# Altium footprint library drac_v31.PcbLib: 45 footprints (part 1 of 3)
Each footprint in its own frame and in the unit in brackets; x right, y up, seen from the top. Pads: shape width x height; smd on the part's side, far side on the other; paste and mask are expansions set on the pad; w line width, h text height; cw(c..) or ccw(c..) is an arc to the next point about the centre after c.
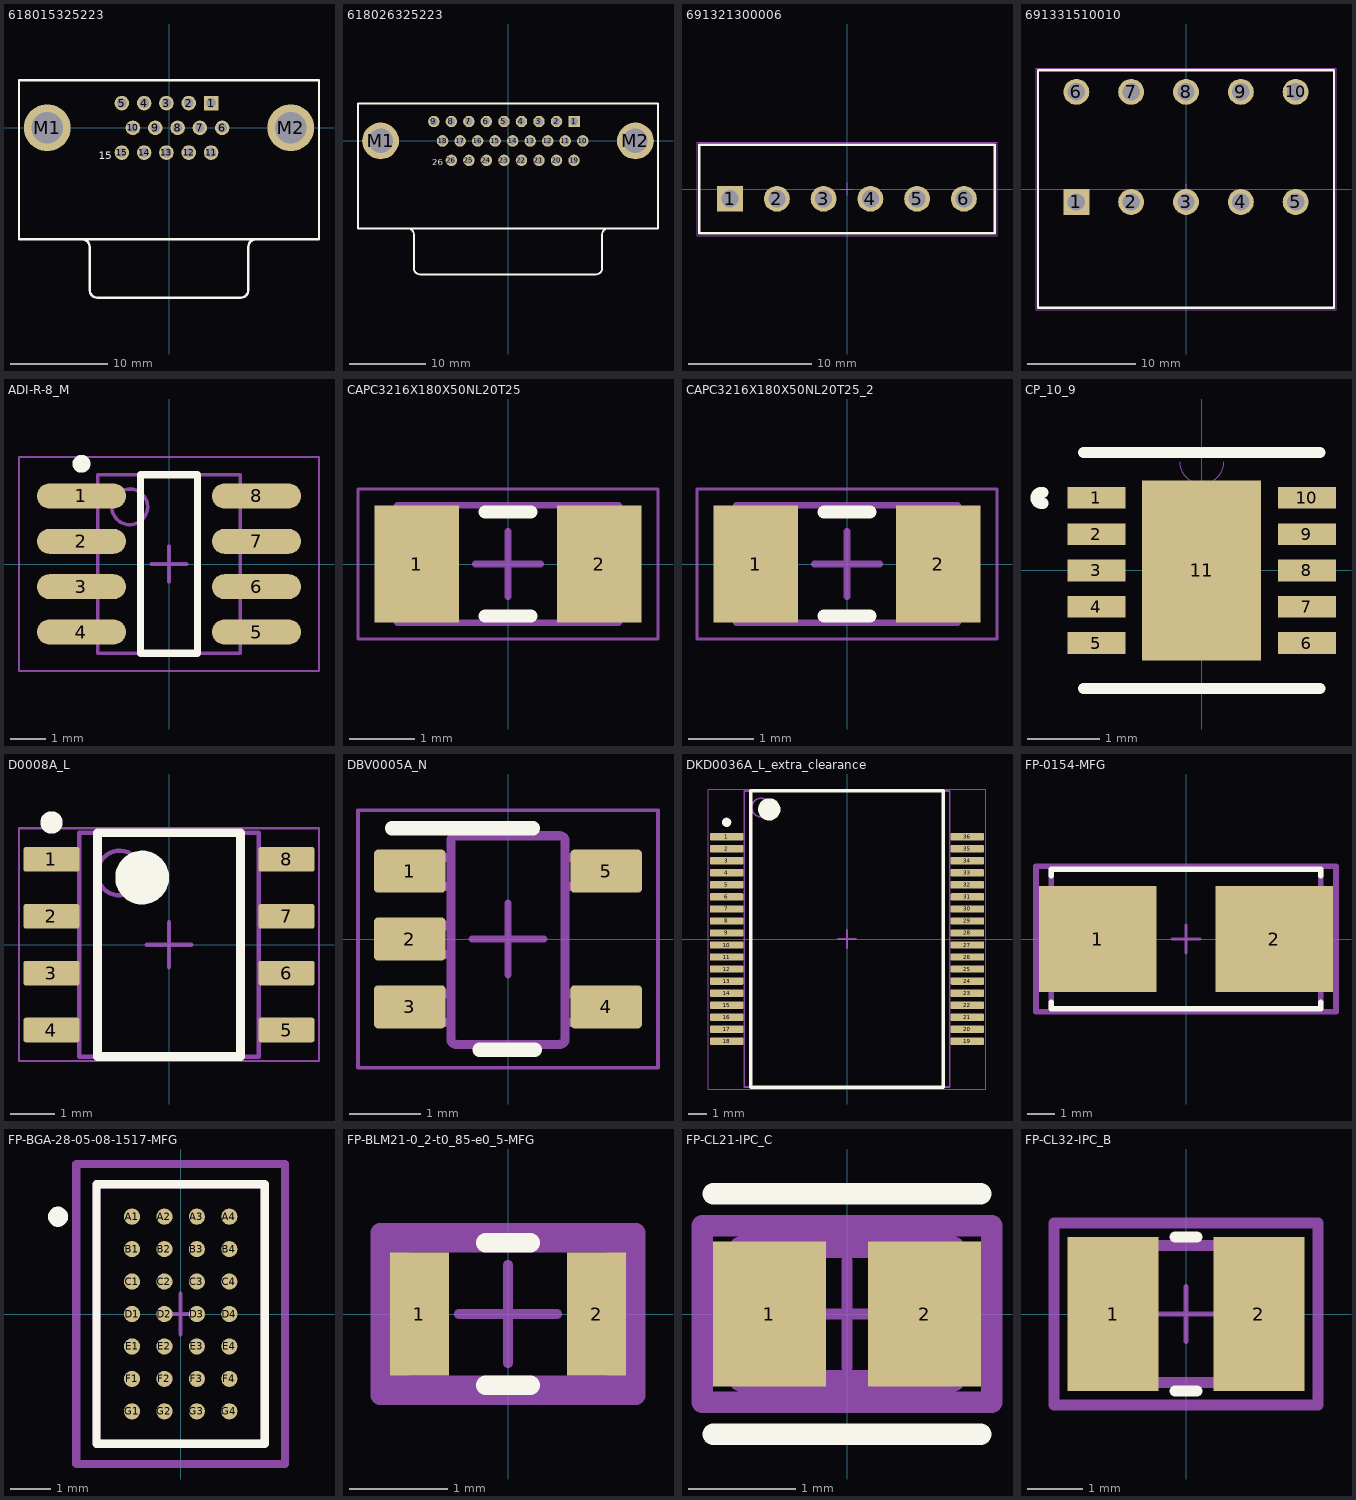
[diagram p0: the footprints below, top view; thin cyan lines are the x and y axes]

## 618015325223 [mm]
pads (17):
  rect 1.5x1.5 hole 1: 1(4.32,2.54)
  round 1.5 hole 1: 2(2.03,2.54) 3(-0.26,2.54) 4(-2.55,2.54) 5(-4.84,2.54) 6(5.46,0) 7(3.17,0) 8(0.88,0) 9(-1.41,0) 10(-3.7,0) 11(4.32,-2.54) 12(2.03,-2.54) 13(-0.26,-2.54) 14(-2.55,-2.54) 15(-4.84,-2.54)
  round 4.8 hole 3.2: M1(-12.5,0) M2(12.5,0)
Top Overlay:
  lines w0.25: -8.95,-11.43 cw(c-8.95,-12.23) -8.15,-12.23 -8.15,-16.63 ccw(c-7.35,-16.63) -7.35,-17.43 7.35,-17.43 ccw(c7.35,-16.63) 8.15,-16.63 8.15,-12.23 cw(c8.95,-12.23) 8.95,-11.43 ; -15.4,-11.43 -15.4,4.87 15.4,4.87 15.4,-11.43 -15.4,-11.43
  text "15" at -7.2,-3.2 h0.8
3D body "618015325223.stp": height 12.75, standoff -3.65, extent -15.4,-17.43 15.4,4.87

## 618026325223 [mm]
pads (28):
  rect 1.5x1.5 hole 1: 1(8.63,2.54)
  round 1.5 hole 1: 2(6.34,2.54) 3(4.05,2.54) 4(1.76,2.54) 5(-0.53,2.54) 6(-2.82,2.54) 7(-5.11,2.54) 8(-7.4,2.54) 9(-9.69,2.54) 10(9.77,0) 11(7.48,0) 12(5.19,0) 13(2.9,0) 14(0.61,0) 15(-1.68,0) 16(-3.97,0) 17(-6.26,0) 18(-8.55,0) 19(8.63,-2.54) 20(6.34,-2.54) 21(4.05,-2.54) 22(1.76,-2.54) 23(-0.53,-2.54) 24(-2.82,-2.54) 25(-5.11,-2.54) 26(-7.4,-2.54)
  round 4.8 hole 3.2: M1(-16.65,0) M2(16.65,0)
Top Overlay:
  lines w0.25: -13.1,-11.43 cw(c-13.1,-12.23) -12.3,-12.23 -12.3,-16.63 ccw(c-11.5,-16.63) -11.5,-17.43 11.5,-17.43 ccw(c11.5,-16.63) 12.3,-16.63 12.3,-12.23 cw(c13.1,-12.23) 13.1,-11.43 ; -19.6,-11.43 -19.6,4.87 19.6,4.87 19.6,-11.43 -19.6,-11.43
  text "26" at -9.89,-3.2 h0.8
3D body "618026325223.stp": height 12.75, standoff -3.65, extent -19.6,-17.43 19.6,4.87

## 691321300006 [mm] "Vertical PCB Header, pitch 3.81mm, 06p"
height 9.2
pads (6):
  rect 2.1x2.1 hole 1.4: 1(-9.525,-0.8)
  round 2.1 hole 1.4: 2(-5.715,-0.8) 3(-1.905,-0.8) 4(1.905,-0.8) 5(5.715,-0.8) 6(9.525,-0.8)
Top Overlay:
  lines w0.2: -12.025,-3.6 12.025,-3.6 12.025,3.6 -12.025,3.6 -12.025,-3.6
Top 3D Body:
  lines w0.1: -12.025,-3.6 -12.025,3.6 12.025,3.6 12.025,-3.6 -12.025,-3.6
Top Courtyard:
  lines w0.05: -0.5,0 0.5,0 ; 0,-0.5 0,0.5 ; -12.225,-3.8 -12.225,3.8 12.225,3.8 12.225,-3.8 -12.225,-3.8
3D body "691321300006.stp": height 9.25, standoff -3.45, extent -12.025,-3.6 12.025,3.6

## 691331510010 [mm] "5,08mm - PCB - Dual row - Horizontal - 10p"
height 28.8
pads (10):
  rect 2.4x2.4 hole 1.6: 1(-10.16,-1.2)
  round 2.4 hole 1.6: 2(-5.08,-1.2) 3(0,-1.2) 4(5.08,-1.2) 5(10.16,-1.2) 6(-10.16,9) 7(-5.08,9) 8(0,9) 9(5.08,9) 10(10.16,9)
Top Overlay:
  lines w0.2: -13.7,-11 13.7,-11 13.7,11 -13.7,11 -13.7,-11
Top 3D Body:
  lines w0.1: -13.7,-11 -13.7,11 13.7,11 13.7,-11 -13.7,-11
Top Courtyard:
  lines w0.05: -0.5,0 0.5,0 ; 0,-0.5 0,0.5 ; -13.9,-11.2 -13.9,11.2 13.9,11.2 13.9,-11.2 -13.9,-11.2
3D body "691331510010.stp": height 28.85, standoff -3.95, extent -13.7,-11 13.7,11

## ADI-R-8_M [mm] "SOIC, 8-Leads, Body 4.9x3.9mm, Pitch 1.27mm, IPC Low Density"
height 1.75
pads (8):
  oval 2.5x0.7 smd: 1(-2.45,1.905) 2(-2.45,0.635) 3(-2.45,-0.635) 4(-2.45,-1.905) 5(2.45,-1.905) 6(2.45,-0.635) 7(2.45,0.635) 8(2.45,1.905)
Top Overlay:
  circle w0.25: c-2.45,2.805 r0.125
  lines w0.2: -0.8,-2.5 0.8,-2.5 0.8,2.5 -0.8,2.5 -0.8,-2.5
Top 3D Body:
  circle w0.1: c-1.1,1.6 r0.5
  lines w0.1: -2,-2.5 2,-2.5 2,2.5 -2,2.5 -2,-2.5
Top Courtyard:
  lines w0.05: -4.2,-3 4.2,-3 4.2,3 -4.2,3 -4.2,-3
  lines w0.1: -0.5,0 0.5,0 ; 0,-0.5 0,0.5
3D body: height 1.75, standoff 0.1, extent -2,-2.5 2,2.5

## CAPC3216X180X50NL20T25 [mm] "Chip Capacitor, 2-Leads, Body 3.20x1.60mm, IPC Medium Density"
height 1.8
pads (2):
  rect 1.3x1.8 smd: 1(-1.4,0) 2(1.4,0)
Top Overlay:
  lines w0.2: -0.35,-0.8 0.35,-0.8 ; -0.35,0.8 0.35,0.8
Top 3D Body:
  lines w0.1: -1.7,-0.9 -1.7,0.9 1.7,0.9 1.7,-0.9 -1.7,-0.9
Top Courtyard:
  lines w0.05: -2.3,-1.15 -2.3,1.15 2.3,1.15 2.3,-1.15 -2.3,-1.15
  lines w0.1: -0.5,0 0.5,0 ; 0,-0.5 0,0.5
3D body: height 1.8, standoff 0, extent 1.2,-0.9 1.7,0.9
3D body: height 1.8, standoff 0, extent -1.7,-0.9 -1.2,0.9
3D body: height 1.8, standoff 0, extent -1.2,-0.9 1.2,0.9

## CAPC3216X180X50NL20T25_2 [mm]
pads (2):
  rect 1.3x1.8 smd: 1(-1.4,0) 2(1.4,0)
Top Overlay:
  lines w0.2: -0.35,-0.8 0.35,-0.8 ; -0.35,0.8 0.35,0.8
Top 3D Body:
  lines w0.1: -1.7,-0.9 -1.7,0.9 1.7,0.9 1.7,-0.9 -1.7,-0.9
Top Courtyard:
  lines w0.05: -2.3,-1.15 -2.3,1.15 2.3,1.15 2.3,-1.15 -2.3,-1.15
  lines w0.1: -0.5,0 0.5,0 ; 0,-0.5 0,0.5
3D body "CAPC3216X18N.step": height 1.8, standoff 0, extent -1.7,-0.9 1.7,0.9

## CP_10_9 [mm]
pads (11):
  rect 0.8x0.3 smd: 1(-1.45,1) 2(-1.45,0.5) 3(-1.45,0) 4(-1.45,-0.5) 5(-1.45,-1) 6(1.45,-1) 7(1.45,-0.5) 8(1.45,0) 9(1.45,0.5) 10(1.45,1)
  rect 1.64x2.48 smd paste-1.227: 11(0,0)
Top Overlay:
  lines w0.152: -2.188,0.926 cw(c-2.206,1) -2.188,1.074 ; -1.627,-1.627 1.627,-1.627 ; -1.627,1.627 1.627,1.627
Top Paste:
  region: 0.82,1.24 -0.82,1.24 -0.82,-1.24 0.82,-1.24
Top 3D Body:
  lines w0: -0.305,1.5 ccw(c0,1.5) 0.305,1.5
3D body "CP_10_9.stp": height 0.75, standoff 0, extent -1.55,-1.5 1.55,1.5

## D0008A_L [mm] "SOIC, 8-Leads, Body 5x4mm, Pitch 1.27mm, IPC High Density"
height 1.75
pads (8):
  rrect18% 1.25x0.55 smd: 1(-2.625,1.905) 2(-2.625,0.635) 3(-2.625,-0.635) 4(-2.625,-1.905) 5(2.625,-1.905) 6(2.625,-0.635) 7(2.625,0.635) 8(2.625,1.905)
Top Overlay:
  circle w0.6: c-0.6,1.5 r0.3
  circle w0.25: c-2.625,2.73 r0.125
  lines w0.2: -1.6,-2.5 1.6,-2.5 1.6,2.5 -1.6,2.5 -1.6,-2.5
Mechanical 1:
  text ".Designator" at -1.397,-0.254 h0.6
Top 3D Body:
  circle w0.1: c-1.1,1.6 r0.5
  lines w0.1: -2,-2.5 2,-2.5 2,2.5 -2,2.5 -2,-2.5
Top Courtyard:
  lines w0.05: -3.35,-2.6 3.35,-2.6 3.35,2.6 -3.35,2.6 -3.35,-2.6
  lines w0.1: -0.5,0 0.5,0 ; 0,-0.5 0,0.5
3D body "SOIC-8akaD0008AakaM08A.stp": height 1.63, standoff 0, extent -3,-2.45 3,2.45

## DBV0005A_N [mm]
pads (5):
  rrect17% 1x0.6 smd: 1(-1.375,0.95) 2(-1.375,0) 3(-1.375,-0.95) 4(1.375,-0.95) 5(1.375,0.95)
Top Overlay:
  lines w0.2: -1.625,1.55 0.35,1.55 ; -0.4,-1.55 0.375,-1.55
Top Assembly:
  lines w0.127: -0.801,1.371 cw(c-0.725,1.37) -0.725,1.446 ; -0.801,1.37 -0.801,-1.399 -0.801,-1.4 ccw(c-0.725,-1.399) -0.725,-1.475 ; -0.801,1.37 -0.801,1.371 ; -0.725,-1.475 0.723,-1.475 0.724,-1.475 ccw(c0.723,-1.399) 0.799,-1.4 0.799,-1.399 0.799,1.37 ; -0.725,-1.475 -0.725,-1.475 ; -0.725,1.446 0.723,1.446 0.724,1.446 cw(c0.723,1.37) 0.799,1.371 ; -0.725,1.446 -0.725,1.446 ; 0.799,1.37 0.799,1.371 ; -1.423,-1.167 -1.199,-1.167 -1.105,-1.167 -1.088,-1.167 -0.835,-1.167 -0.801,-1.167 -0.801,-0.767 -0.835,-0.767 -1.088,-0.767 -1.105,-0.767 -1.199,-0.767 -1.423,-0.767 -1.423,-1.167 ; -1.423,-0.215 -1.423,0.186 -1.199,0.186 -1.105,0.186 -1.088,0.186 -0.835,0.186 -0.801,0.186 -0.801,-0.215 -0.835,-0.215 -1.088,-0.215 -1.105,-0.215 -1.199,-0.215 -1.423,-0.215 ; -1.423,0.738 -1.199,0.738 -1.105,0.738 -1.088,0.738 -0.835,0.738 -0.801,0.738 -0.801,1.138 -0.835,1.138 -1.088,1.138 -1.105,1.138 -1.199,1.138 -1.423,1.138 -1.423,0.738 ; 0.799,-1.167 0.834,-1.167 1.087,-1.167 1.103,-1.167 1.198,-1.167 1.422,-1.167 1.422,-0.767 1.198,-0.767 1.103,-0.767 1.087,-0.767 0.834,-0.767 0.799,-0.767 0.799,-1.167 ; 0.799,0.738 0.834,0.738 1.087,0.738 1.103,0.738 1.198,0.738 1.422,0.738 1.422,1.138 1.198,1.138 1.103,1.138 1.087,1.138 0.834,1.138 0.799,1.138 0.799,0.738
  text ".Designator" at -0.25,0.95 h0.51
Top Courtyard:
  lines w0.05: -2.1,-1.8 2.1,-1.8 2.1,1.8 -2.1,1.8 -2.1,-1.8
  lines w0.1: -0.5,0 0.5,0 ; 0,-0.5 0,0.5
3D body "DBV0005A.stp": height 1.09, standoff 0, extent -1.422,-1.461 1.423,1.46

## DKD0036A_L_extra_clearance [mm] "SOP, 36-Leads, Body 16x11.1mm, Pitch 0.65mm, IPC High Density"
height 3.6
pads (36):
  rrect22% 1.8x0.394 smd: 1(-6.5,5.525) 2(-6.5,4.875) 3(-6.5,4.225) 4(-6.5,3.575) 5(-6.5,2.925) 6(-6.5,2.275) 7(-6.5,1.625) 8(-6.5,0.975) 9(-6.5,0.325) 10(-6.5,-0.325) 11(-6.5,-0.975) 12(-6.5,-1.625) 13(-6.5,-2.275) 14(-6.5,-2.925) 15(-6.5,-3.575) 16(-6.5,-4.225) 17(-6.5,-4.875) 18(-6.5,-5.525) 19(6.5,-5.525) 20(6.5,-4.875) 21(6.5,-4.225) 22(6.5,-3.575) 23(6.5,-2.925) 24(6.5,-2.275) 25(6.5,-1.625) 26(6.5,-0.975) 27(6.5,-0.325) 28(6.5,0.325) 29(6.5,0.975) 30(6.5,1.625) 31(6.5,2.275) 32(6.5,2.925) 33(6.5,3.575) 34(6.5,4.225) 35(6.5,4.875) 36(6.5,5.525)
Top Overlay:
  circle w0.6: c-4.2,7 r0.3
  circle w0.25: c-6.5,6.3 r0.125
  lines w0.2: -5.2,-8 5.2,-8 5.2,8 -5.2,8 -5.2,-8
Mechanical 1:
  text ".Designator" at -2.667,-0.635 h1.5
Top 3D Body:
  circle w0.1: c-4.65,7.1 r0.5
  lines w0.1: -5.55,-8 5.55,-8 5.55,8 -5.55,8 -5.55,-8
Top Courtyard:
  lines w0.05: -7.5,-8.1 7.5,-8.1 7.5,8.1 -7.5,8.1 -7.5,-8.1
  lines w0.1: -0.5,0 0.5,0 ; 0,-0.5 0,0.5
3D body: height 3.6, standoff 0.1, extent -5.55,-8 5.55,8

## FP-0154-MFG [mil]
pads (2):
  rect 167x150 smd paste+0 mask+0: 1(-125.5,0) 2(125.5,0)
Top Overlay:
  lines w7.87: -191.54,-89.76 -191.54,-99.02 191.54,-99.02 191.54,-89.76 ; -191.54,89.76 -191.54,99.02 191.54,99.02 191.54,89.76
Top Assembly:
  lines w7.87: -212.94,-102.95 212.94,-102.95 212.94,102.95 -212.94,102.95 -212.94,-102.95
  text ".Designator" at 0,7.39 h39.37
Top 3D Body:
  lines w7.87: -191.54,-99.02 191.54,-99.02 191.54,99.02 -191.54,99.02 -191.54,-99.02
Top Courtyard:
  lines w7.87: -212.94,-102.95 212.94,-102.95 212.94,102.95 -212.94,102.95 -212.94,-102.95
Top Component Center:
  lines w3.94: -19.68,0 19.68,0 ; 0,-19.68 0,19.68
3D body "Fuse_Littelfuse_Inc_0154_125DR_eec.STEP": height 10, standoff 0, extent -212.94,-102.95 212.94,102.95

## FP-BGA-28-05-08-1517-MFG [mm]
pads (28):
  round 0.4 smd paste+0 mask+0: A1(-1.2,2.4) A2(-0.4,2.4) A3(0.4,2.4) A4(1.2,2.4) B1(-1.2,1.6) B2(-0.4,1.6) B3(0.4,1.6) B4(1.2,1.6) C1(-1.2,0.8) C2(-0.4,0.8) C3(0.4,0.8) C4(1.2,0.8) D1(-1.2,0) D2(-0.4,0) D3(0.4,0) D4(1.2,0) E1(-1.2,-0.8) E2(-0.4,-0.8) E3(0.4,-0.8) E4(1.2,-0.8) F1(-1.2,-1.6) F2(-0.4,-1.6) F3(0.4,-1.6) F4(1.2,-1.6) G1(-1.2,-2.4) G2(-0.4,-2.4) G3(0.4,-2.4) G4(1.2,-2.4)
Top Overlay:
  circle w0.25: c-3.025,2.4 r0.125
  lines w0.2: -2.075,-3.2 2.075,-3.2 2.075,3.2 -2.075,3.2 -2.075,-3.2
Top Assembly:
  lines w0.2: -2.575,-3.7 2.575,-3.7 2.575,3.7 -2.575,3.7 -2.575,-3.7
  text ".Designator" at 0,-0.177 h1
Top 3D Body:
  lines w0.2: -2.075,-3.2 2.075,-3.2 2.075,3.2 -2.075,3.2 -2.075,-3.2
Top Courtyard:
  lines w0.2: -2.575,-3.7 2.575,-3.7 2.575,3.7 -2.575,3.7 -2.575,-3.7
Top Component Center:
  lines w0.1: -0.5,0 0.5,0 ; 0,-0.5 0,0.5
3D body "IC_Analog_Devices_LTM8063EY#PBF_eec.STEP": height 0.25, standoff 0, extent -2.575,-3.7 2.575,3.7

## FP-BLM21-0_2-t0_85-e0_5-MFG [mm]
pads (2):
  rect 0.6x1.25 smd paste+0 mask+0: 1(-0.9,0) 2(0.9,0)
Top Overlay:
  lines w0.2: -0.225,-0.725 0.225,-0.725 ; -0.225,0.725 0.225,0.725
Top Assembly:
  lines w0.2: -1.3,-0.825 -1.3,0.825 1.3,0.825 1.3,-0.825 -1.3,-0.825
  text ".Designator" at 0,0.188 h1
Top 3D Body:
  lines w0.2: -1.1,-0.725 -1.1,0.725 1.1,0.725 1.1,-0.725 -1.1,-0.725
Top Courtyard:
  lines w0.2: -1.3,-0.825 -1.3,0.825 1.3,0.825 1.3,-0.825 -1.3,-0.825
Top Component Center:
  lines w0.1: -0.5,0 0.5,0 ; 0,-0.5 0,0.5
3D body "FBead_Murata_BLM21AG102SN1D_eec.STEP": height 0.25, standoff 0, extent -1.3,-0.825 1.3,0.825

## FP-CL21-IPC_C [mm]
pads (2):
  rect 1.055x1.356 smd paste+0 mask+0: 1(-0.726,0) 2(0.726,0)
Top Overlay:
  lines w0.2: -1.253,-1.125 1.253,-1.125 ; -1.253,1.125 1.253,1.125
Top Assembly:
  lines w0.2: -1.353,-0.825 1.353,-0.825 1.353,0.825 -1.353,0.825 -1.353,-0.825
  text ".Designator" at 0,0.188 h1
Top 3D Body:
  lines w0.2: -1,-0.625 1,-0.625 1,0.625 -1,0.625 -1,-0.625
Top Courtyard:
  lines w0.2: -1.353,-0.825 1.353,-0.825 1.353,0.825 -1.353,0.825 -1.353,-0.825
Top Component Center:
  lines w0.1: -0.5,0 0.5,0 ; 0,-0.5 0,0.5
3D body "Cap_Samsung_CL21B273KBANNNC_eec.STEP": height 0.25, standoff 0, extent -1.353,-0.825 1.353,0.825

## FP-CL32-IPC_B [mm]
pads (2):
  rect 1.653x2.804 smd paste+0 mask+0: 1(-1.325,0) 2(1.325,0)
Top Overlay:
  lines w0.2: -0.199,-1.402 0.199,-1.402 ; -0.199,1.402 0.199,1.402
Top Assembly:
  lines w0.2: -2.402,-1.652 2.402,-1.652 2.402,1.652 -2.402,1.652 -2.402,-1.652
  text ".Designator" at 0,0.188 h1
Top 3D Body:
  lines w0.2: -1.6,-1.25 1.6,-1.25 1.6,1.25 -1.6,1.25 -1.6,-1.25
Top Courtyard:
  lines w0.2: -2.402,-1.652 2.402,-1.652 2.402,1.652 -2.402,1.652 -2.402,-1.652
Top Component Center:
  lines w0.1: -0.5,0 0.5,0 ; 0,-0.5 0,0.5
3D body "Cap_Samsung_Electro-Mechanics_America_Inc_CL32C472JBFNNNE_eec.STEP": height 0.25, standoff 0, extent -2.402,-1.652 2.402,1.652